# Altium schematic symbol library mySchLib.SchLib: 55 symbols
Pins are listed as number, name and electrical type; pins without a type are passive.

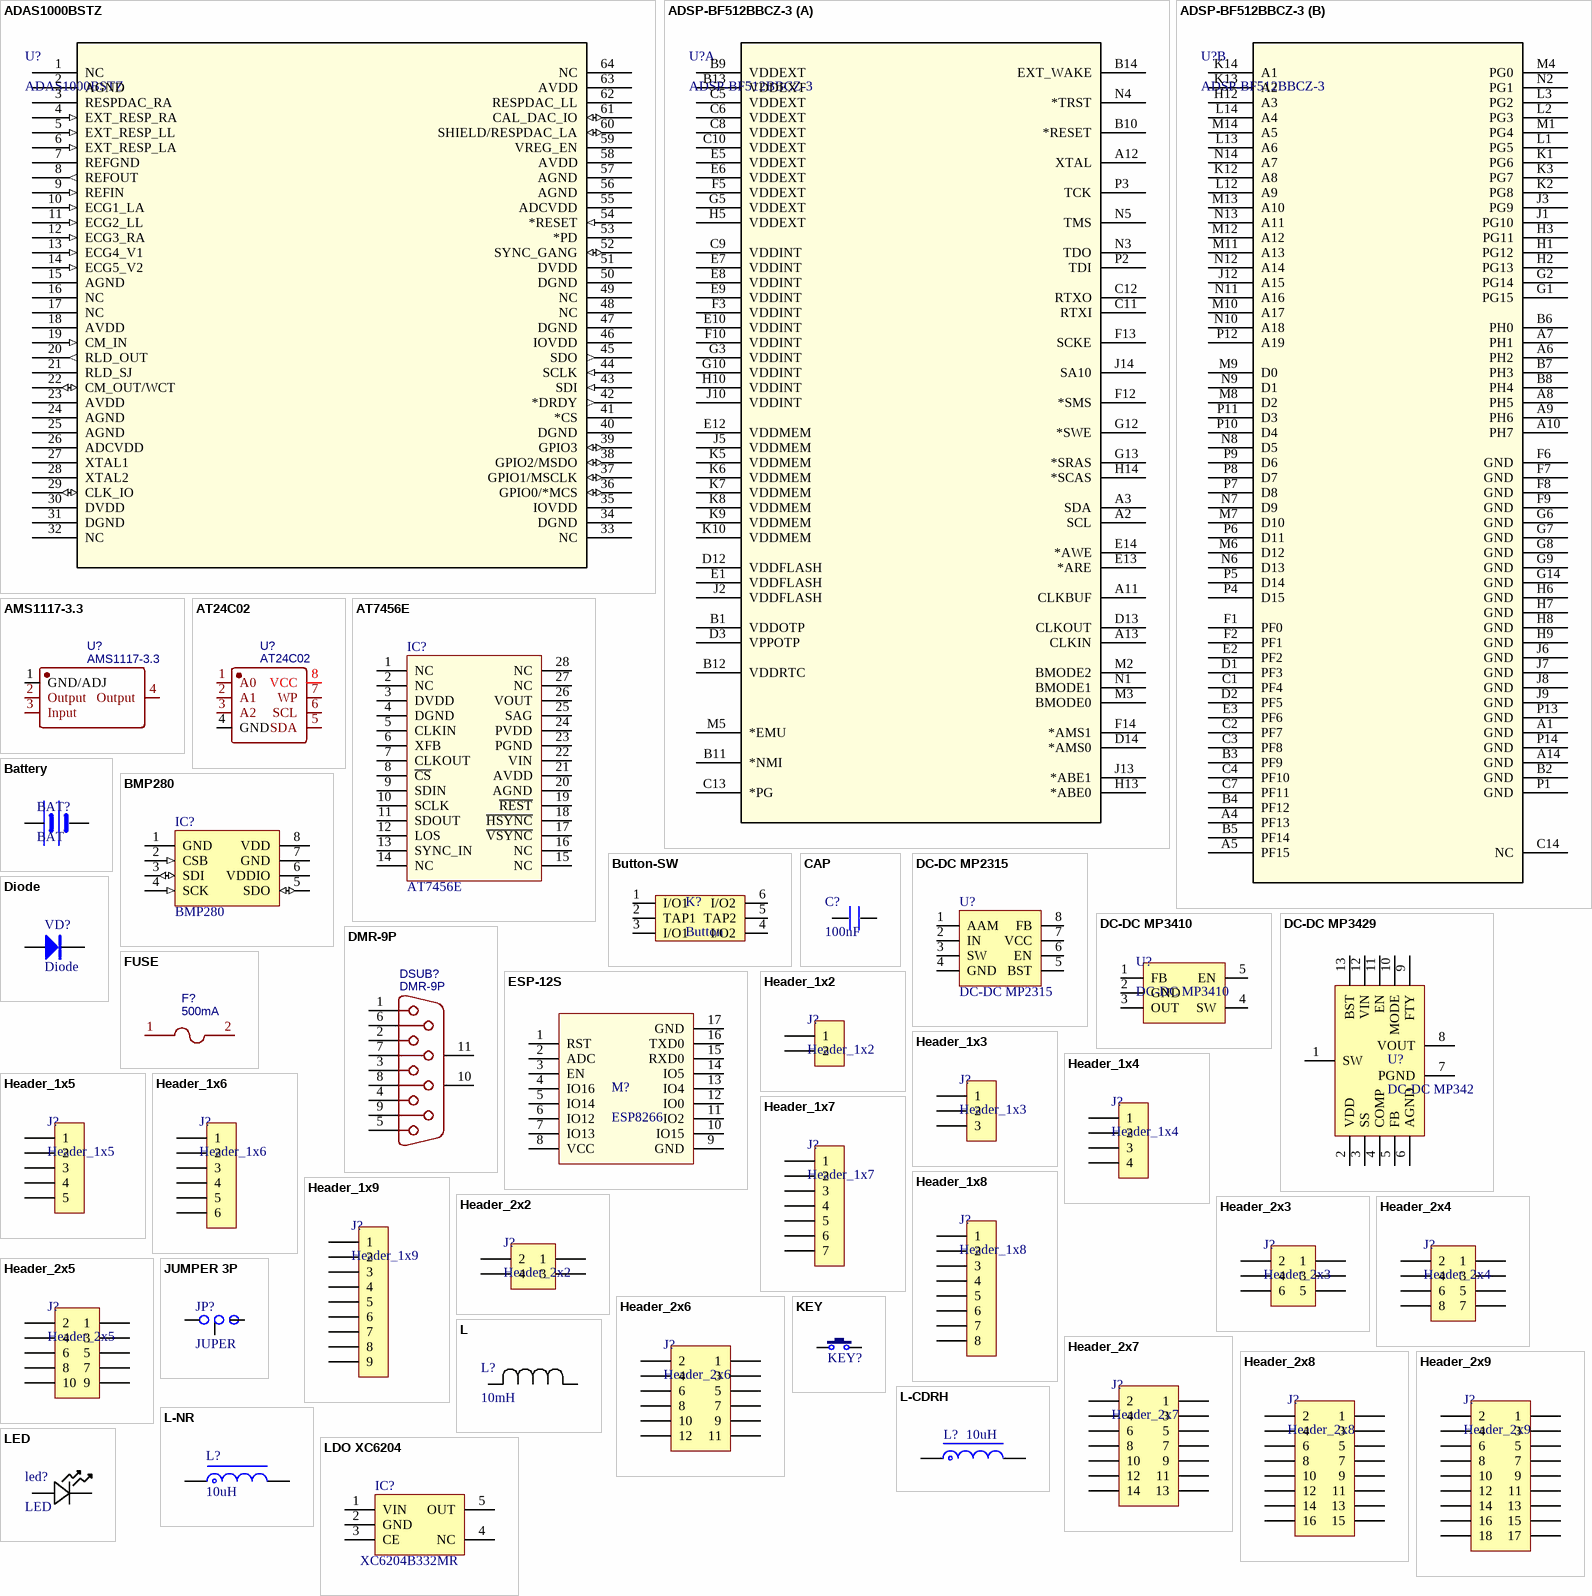
[diagram p0: symbols ADAS1000BSTZ to LED]

## ADAS1000BSTZ
designator U?
Vendor: Analog Devices Inc; Built_By: EMA_UL_Team; SourceLibrary: Analog_2015-01-06; Manufacturer_Part_Number: ADAS1000BSTZ; Copyright: Copyright (C) 2018 Accelerated Designs. All rights reserved; RefDes: RefDes; Type: DEV
footprint ADAS1000 (ECG芯片)
pins: 1 NC, 2 AGND (power), 3 RESPDAC_RA, 4 EXT_RESP_RA (in), 5 EXT_RESP_LL (in), 6 EXT_RESP_LA (in), 7 REFGND (power), 8 REFOUT (out), 9 REFIN (in), 10 ECG1_LA (in), 11 ECG2_LL (in), 12 ECG3_RA (in), 13 ECG4_V1 (in), 14 ECG5_V2 (in), 15 AGND (power), 16 NC, 17 NC, 18 AVDD (power), 19 CM_IN (in), 20 RLD_OUT (out), 21 RLD_SJ, 22 CM_OUT/WCT (io), 23 AVDD (power), 24 AGND (power), 25 AGND (power), 26 ADCVDD (power), 27 XTAL1, 28 XTAL2, 29 CLK_IO (io), 30 DVDD (power), 31 DGND (power), 32 NC, 33 NC, 34 DGND (power), 35 IOVDD (power), 36 GPIO0/*MCS (io), 37 GPIO1/MSCLK (io), 38 GPIO2/MSDO (io), 39 GPIO3 (io), 40 DGND (power), 41 *CS, 42 *DRDY (out), 43 SDI (in), 44 SCLK (in), 45 SDO (out), 46 IOVDD (power), 47 DGND (power), 48 NC, 49 NC, 50 DGND (power), 51 DVDD (power), 52 SYNC_GANG (io), 53 *PD, 54 *RESET (in), 55 ADCVDD (power), 56 AGND (power), 57 AGND (power), 58 AVDD (power), 59 VREG_EN, 60 SHIELD/RESPDAC_LA (io), 61 CAL_DAC_IO (io), 62 RESPDAC_LL, 63 AVDD (power), 64 NC

## ADSP-BF512BBCZ-3
designator U?
Vendor: Analog Devices Inc; Built_By: EMA_UL_Team; SourceLibrary: Analog_2015-12-15; Manufacturer_Part_Number: ADSP-BF512BBCZ-3; Copyright: Copyright (C) 2018 Accelerated Designs. All rights reserved; RefDes: RefDes; Type: DEV
footprint ADSP-BF512BBCZ-3
part A pins: A2 SCL, A3 SDA, A11 CLKBUF, A12 XTAL, A13 CLKIN, B1 VDDOTP, B9 VDDEXT, B10 *RESET, B11 *NMI, B12 VDDRTC, B13 VDDEXT, B14 EXT_WAKE, C5 VDDEXT, C6 VDDEXT, C8 VDDEXT, C9 VDDINT, C10 VDDEXT, C11 RTXI, C12 RTXO, C13 *PG, D3 VPPOTP, D12 VDDFLASH, D13 CLKOUT, D14 *AMS0, E1 VDDFLASH, E5 VDDEXT, E6 VDDEXT, E7 VDDINT, E8 VDDINT, E9 VDDINT, E10 VDDINT, E12 VDDMEM, E13 *ARE, E14 *AWE, F3 VDDINT, F5 VDDEXT, F10 VDDINT, F12 *SMS, F13 SCKE, F14 *AMS1, G3 VDDINT, G5 VDDEXT, G10 VDDINT, G12 *SWE, G13 *SRAS, H5 VDDEXT, H10 VDDINT, H13 *ABE0, H14 *SCAS, J2 VDDFLASH, J5 VDDMEM, J10 VDDINT, J13 *ABE1, J14 SA10, K5 VDDMEM, K6 VDDMEM, K7 VDDMEM, K8 VDDMEM, K9 VDDMEM, K10 VDDMEM, M2 BMODE2, M3 BMODE0, M5 *EMU, N1 BMODE1, N3 TDO, N4 *TRST, N5 TMS, P2 TDI, P3 TCK
part B pins: A1 GND, A4 PF13, A5 PF15, A6 PH2, A7 PH1, A8 PH5, A9 PH6, A10 PH7, A14 GND, B2 GND, B3 PF9, B4 PF12, B5 PF14, B6 PH0, B7 PH3, B8 PH4, C1 PF4, C2 PF7, C3 PF8, C4 PF10, C7 PF11, C14 NC, D1 PF3, D2 PF5, E2 PF2, E3 PF6, F1 PF0, F2 PF1, F6 GND, F7 GND, F8 GND, F9 GND, G1 PG15, G2 PG14, G6 GND, G7 GND, G8 GND, G9 GND, G14 GND, H1 PG12, H2 PG13, H3 PG11, H6 GND, H7 GND, H8 GND, H9 GND, H12 A3, J1 PG10, J3 PG9, J6 GND, J7 GND, J8 GND, J9 GND, J12 A15, K1 PG6, K2 PG8, K3 PG7, K12 A8, K13 A2, K14 A1, L1 PG5, L2 PG3, L3 PG2, L12 A9, L13 A6, L14 A4, M1 PG4, M4 PG0, M6 D12, M7 D10, M8 D2, M9 D0, M10 A17, M11 A13, M12 A12, M13 A10, M14 A5, N2 PG1, N6 D13, N7 D9, N8 D5, N9 D1, N10 A18, N11 A16, N12 A14, N13 A11, N14 A7, P1 GND, P4 D15, P5 D14, P6 D11, P7 D8, P8 D7, P9 D6, P10 D4, P11 D3, P12 A19, P13 GND, P14 GND

## AMS1117-3.3
designator U?
BOM_Manufacturer: KEXIN; Contributor: LCSC; SMT Type: Extend; BOM_Supplier: LCSC; BOM_Supplier Part: C369933; BOM_Manufacturer Part: AMS1117-3.3; BOM_LCSC Assembly: Yes; spicePre: U; spiceSymbolName: AMS1117-3.3_C369933
footprint SOT-223
pins: 1 GND/ADJ, 2 Output, 3 Input, 4 Output

## AT24C02
designator U?
EEPROM; BOM_Manufacturer: IDCHIP; Contributor: LCSC; BOM_Supplier: LCSC; BOM_Supplier Part: C688857; BOM_Manufacturer Part: AT24C02; BOM_JLCPCB Part Class: Extended Part; spicePre: U; spiceSymbolName: AT24C02
footprint SOP-8
pins: 1 A0, 2 A1, 3 A2, 4 GND, 5 SDA, 6 SCL, 7 WP, 8 VCC

## AT7456E
designator IC?
OSD芯片
footprint TSSOP28 (9.8*6.4*1mm(长宽高))
pins: 1 NC, 2 NC, 3 DVDD, 4 DGND, 5 CLKIN, 6 XFB, 7 CLKOUT, 8 ~{CS}, 9 SDIN, 10 SCLK, 11 SDOUT, 12 LOS, 13 SYNC_IN, 14 NC, 15 NC, 16 NC, 17 ~{VSYNC}, 18 ~{HSYNC}, 19 ~{REST}, 20 AGND, 21 AVDD, 22 VIN, 23 PGND, 24 PVDD, 25 SAG, 26 VOUT, 27 NC, 28 NC

## Battery
designator BAT?, comment BAT
电池
footprint CR1220 (电池座)
pins: 1 VCC, 2 GND

## BMP280
designator IC?
气压传感器
footprint BMP280 LGA8 (气压传感器)
pins: 1 GND, 2 CSB (in), 3 SDI (io), 4 SCK (in), 5 SDO (io), 6 VDDIO (power), 7 GND (power), 8 VDD (power)

## Button-SW
designator K?, comment Button
按钮自锁开关
footprint Button-8.5*8.5 (自锁开关8.5*8.5)
pins: 1 I/O1, 2 TAP1, 3 I/O1, 4 I/O2, 5 TAP2, 6 I/O2

## CAP
designator C?, comment 100nF
无极性贴片电容; Manufacturer_Part_Number: 04023A0R3BAT2A; Vendor: AVX Corporation; Built_By: EMA_UL_Team; Type: DEV; C: Copyright (C) 2016 Accelerated Designs. All rights reserved; Copyright: Copyright (C) 2016 Accelerated Designs. All rights reserved; RefDes: RefDes; Value: Value
footprint 0402_CAP (无极性贴片电容0402封装)
footprint 0603_CAP (无极性贴片电容0603封装)
footprint 0805_CAP (无极性贴片电容0805封装)
footprint 1206_CAP (无极性贴片电容1206封装)
pins: 1, 2

## DC-DC MP2315
designator U?
DC降压芯片
footprint SOT23-8 (3*1.6*1.1mm(长宽高))
pins: 1 AAM, 2 IN, 3 SW, 4 GND, 5 BST, 6 EN, 7 VCC, 8 FB

## DC-DC MP3410
designator U?
DC升压芯片；Vin=1.8~6V； Vout=2.56~6V
footprint SOT23-5 (3*1.6*1.1mm(长宽高))
pins: 1 FB, 2 GND, 3 OUT, 4 SW, 5 EN

## DC-DC MP3429
designator U?, comment DC-DC MP342
DC升压芯片；
footprint QFN-13 (3mm*4mm)
pins: 1 SW, 2 VDD, 3 SS, 4 COMP, 5 FB, 6 AGND, 7 PGND, 8 VOUT, 9 FTY, 10 MODE, 11 EN, 12 VIN, 13 BST

## Diode
designator VD?
二极管; BOM名称: 肖特基二极管; 版权归属: 源创客; 属性: 40V/1A; 学习资源: www.ooocke.com
footprint SOD-123 (2.7*1.6*1.1mm（长宽高，不包括引脚）)
pins: 1 A, 2 K

## DMR-9P
designator DSUB?
D-Sub 9P; BOM_Manufacturer: Ckmtw; Contributor: LCSC; BOM_Supplier: LCSC; BOM_Manufacturer Part: DMR-9P; BOM_Supplier Part: C141880; BOM_JLCPCB Part Class: Extended Part; spicePre: D; spiceSymbolName: DMR-9P
footprint DMR-9P (D-Sub 9P 公座)
pins: 1, 2, 3, 4, 5, 6, 7, 8, 9, 10 MH1, 11 MH2

## ESP-12S
designator M?, comment ESP8266
ESP-12S Module
footprint ESP-12S (ESP8266)
pins: 1 RST, 2 ADC, 3 EN, 4 IO16, 5 IO14, 6 IO12, 7 IO13, 8 VCC, 9 GND, 10 IO15, 11 IO2, 12 IO0, 13 IO4, 14 IO5, 15 RXD0, 16 TXD0, 17 GND

## FUSE
designator F?, comment 500mA
自恢复保险丝; BOM_Manufacturer: JDTFUSE; BOM_Manufacturer Part: ASMD0805-050; Contributor: LCSC; BOM_Supplier: LCSC; BOM_Supplier Part: C135329; BOM_JLCPCB Part Class: Extended Part; spicePre: F; spiceSymbolName: ASMD0805-050
footprint 0805_F (贴片保险丝0805封装)
footprint 1210_F (贴片保险丝1210封装)
footprint 1206_F (贴片保险丝1206封装)
footprint 1812_F (贴片保险丝1812封装)
footprint 0603_F (贴片保险丝0603封装)
footprint 0402_F (贴片保险丝0402封装)
pins: 1, 2

## Header_1x2
designator J?
2P接插件; Manufacturer_Part_Number: 826629-2; Vendor: TE Connectivity; Built_By: EMA_UL_Team; C: Copyright (C) 2015 Accelerated Designs. All rights reserved; RefDes: RefDes; Type: DEV; Value: Value
footprint Header_1x2 (2P排针，插件，脚距2.54mm)
footprint SH1.0 S-W-2P (贴片JST，脚距1.0mm，卧式)
footprint XH2.54-2P (直针)
pins: 1, 2

## Header_1x3
designator J?
3P接插件; Manufacturer_Part_Number: 826629-3; Vendor: TE Connectivity; Built_By: EMA_UL_Team; C: Copyright (C) 2015 Accelerated Designs. All rights reserved; RefDes: RefDes; Type: DEV; Value: Value
footprint Header_1x3 (3P排针，插件，脚距2.54mm)
footprint MX 1.25-WS-3P (8.9*4.2*3.4mm(长宽高))
footprint XH2.54-3P (直针)
pins: 1, 2, 3

## Header_1x4
designator J?
4P接插件; Manufacturer_Part_Number: 826629-4; Vendor: TE Connectivity; Built_By: EMA_UL_Team; C: Copyright (C) 2015 Accelerated Designs. All rights reserved; RefDes: RefDes; Type: DEV; Value: Value
footprint Header_1x4 (4P排针，插件，脚距2.54mm)
footprint SH1.0 S-W-4P (贴片JST，脚距1.0mm，卧式)
footprint XH2.54-4P (直针)
pins: 1, 2, 3, 4

## Header_1x5
designator J?
5P接插件; Manufacturer_Part_Number: 826629-5; Vendor: TE Connectivity; Built_By: EMA_UL_Team; C: Copyright (C) 2015 Accelerated Designs. All rights reserved; RefDes: RefDes; Type: DEV; Value: Value
footprint Header_1x5 (5P排针，脚距2.54mm)
pins: 1, 2, 3, 4, 5

## Header_1x6
designator J?
6P接插件; Manufacturer_Part_Number: 826629-6; Vendor: TE Connectivity; Built_By: EMA_UL_Team; C: Copyright (C) 2015 Accelerated Designs. All rights reserved; RefDes: RefDes; Type: DEV; Value: Value
footprint Header_1x6 (6P排针，插件，脚距2.54mm)
footprint SH1.0 S-W-6P (贴片JST，脚距1.0mm，卧式)
footprint XH2.54-6P(弯针)
footprint XH2.54-6P (直针)
pins: 1, 2, 3, 4, 5, 6

## Header_1x7
designator J?
7P接插件; Manufacturer_Part_Number: 826629-7; Vendor: TE Connectivity; Built_By: EMA_UL_Team; C: Copyright (C) 2015 Accelerated Designs. All rights reserved; RefDes: RefDes; Type: DEV; Value: Value
footprint Header_1x7 (7P排针，脚距2.54mm)
pins: 1, 2, 3, 4, 5, 6, 7

## Header_1x8
designator J?
8P接插件; Manufacturer_Part_Number: 826629-8; Vendor: TE Connectivity; Built_By: EMA_UL_Team; C: Copyright (C) 2015 Accelerated Designs. All rights reserved; RefDes: RefDes; Type: DEV; Value: Value
footprint Header_1x8 (8P排针，脚距2.54mm)
footprint SH1.0 S-W-8P (贴片JST，脚距1.0mm，卧式)
pins: 1, 2, 3, 4, 5, 6, 7, 8

## Header_1x9
designator J?
9P接插件; Manufacturer_Part_Number: 826629-9; Vendor: TE Connectivity; Built_By: EMA_UL_Team; C: Copyright (C) 2015 Accelerated Designs. All rights reserved; RefDes: RefDes; Type: DEV; Value: Value
footprint Header_1x9 (9P排针，脚距2.54mm)
pins: 1, 2, 3, 4, 5, 6, 7, 8, 9

## Header_2x2
designator J?
2x2P-接插件; Manufacturer_Part_Number: 826656-2; Vendor: TE Connectivity; Built_By: EMA_UL_Team; C: Copyright (C) 2015 Accelerated Designs. All rights reserved; RefDes: RefDes; Type: DEV; Value: Value
footprint Header_2x2 (2x2P双排排针，插件，脚距2.54mm)
pins: 1, 2, 3, 4

## Header_2x3
designator J?
2x3P-接插件; Manufacturer_Part_Number: 826656-3; Vendor: TE Connectivity; Built_By: EMA_UL_Team; C: Copyright (C) 2015 Accelerated Designs. All rights reserved; RefDes: RefDes; Type: DEV; Value: Value
footprint Header_2x3 (2x3P双排排针，插件，脚距2.54mm)
pins: 1, 2, 3, 4, 5, 6

## Header_2x4
designator J?
2x4P-接插件; Manufacturer_Part_Number: 826656-4; Vendor: TE Connectivity; Built_By: EMA_UL_Team; C: Copyright (C) 2015 Accelerated Designs. All rights reserved; RefDes: RefDes; Type: DEV; Value: Value
footprint Header_2x4 (2x4P双排排针，插件，脚距2.54mm)
pins: 1, 2, 3, 4, 5, 6, 7, 8

## Header_2x5
designator J?
2x5P-接插件; Manufacturer_Part_Number: 826656-5; Vendor: TE Connectivity; Built_By: EMA_UL_Team; C: Copyright (C) 2015 Accelerated Designs. All rights reserved; RefDes: RefDes; Type: DEV; Value: Value
footprint Header_2x5 (2x5P双排排针，插件，脚距2.54mm)
footprint HDR1.27 2x5-SMD (2x5P双排排针，贴片，脚距1.27mm)
footprint HDR1.27 2x5-M-SMD (2x5P双排排母，贴片，脚距1.27mm)
pins: 1, 2, 3, 4, 5, 6, 7, 8, 9, 10

## Header_2x6
designator J?
2x6P-接插件; Manufacturer_Part_Number: 826656-6; Vendor: TE Connectivity; Built_By: EMA_UL_Team; C: Copyright (C) 2015 Accelerated Designs. All rights reserved; RefDes: RefDes; Type: DEV; Value: Value
footprint Header_2x6 (2x6P双排排针，插件，脚距2.54mm)
pins: 1, 2, 3, 4, 5, 6, 7, 8, 9, 10, 11, 12

## Header_2x7
designator J?
2x7P-接插件
footprint Header_2x7 (2x7P双排排针，插件，脚距2.54mm)
pins: 1, 2, 3, 4, 5, 6, 7, 8, 9, 10, 11, 12, 13, 14

## Header_2x8
designator J?
2x8P-接插件; Manufacturer_Part_Number: 826656-8; Vendor: TE Connectivity; Built_By: EMA_UL_Team; C: Copyright (C) 2015 Accelerated Designs. All rights reserved; RefDes: RefDes; Type: DEV; Value: Value
footprint Header_2x8 (2x8P双排排针，插件，脚距2.54mm)
pins: 1, 2, 3, 4, 5, 6, 7, 8, 9, 10, 11, 12, 13, 14, 15, 16

## Header_2x9
designator J?
2x9P-接插件; Manufacturer_Part_Number: 826656-9; Vendor: TE Connectivity; Built_By: EMA_UL_Team; C: Copyright (C) 2015 Accelerated Designs. All rights reserved; RefDes: RefDes; Type: DEV; Value: Value
footprint Header_2x9 (2x9P双排排针，插件，脚距2.54mm)
pins: 1, 2, 3, 4, 5, 6, 7, 8, 9, 10, 11, 12, 13, 14, 15, 16, 17, 18

## JUMPER 3P
designator JP?, comment JUPER
三点焊盘跳线
footprint JUMPER 3P (3点跳线)
pins: 1, 2, 3

## KEY
designator KEY?  (value not drawn)
按键; BOM名称: 3x6轻触开关; 版权归属: 源创客; 学习资源: www.ooocke.com
footprint KEY-TSW-2-3*6 (立式两脚贴片按键 3*6)
footprint KEY_TSW-2-2*4*3.5 (侧立贴片按键2*4*3.5)
footprint KEY-CSW-4-6*6 (四脚插件按键6*6)
pins: 1, 2

## L
designator L?, comment 10mH
贴片电感; Manufacturer_Part_Number: MLF1005A1R0KT; Vendor: TDK; Built_By: EMA_UL_Team; Type: DEV; C: Copyright (C) 2015 Accelerated Designs. All rights reserved; RefDes: RefDes; Value: Value
footprint 0402_L (贴片电感0402封装)
footprint 0603_L (贴片电感0603封装)
footprint 0805_L (贴片电感0805封装)
pins: 1, 2

## L-CDRH
designator L?, comment 10uH
功率屏蔽电感; 版权归属: 源创客; BOM名称: 功率屏蔽电感; 学习资源: www.ooocke.com
footprint SMD-0420_L (4*4.5*2mm(长宽高))
pins: 1, 2

## L-NR
designator L?, comment 10uH
NR功率电感; 版权归属: 源创客; BOM名称: NR功率电感; 学习资源: www.ooocke.com
footprint NR3015 (3*3*1.5mm(长宽高))
pins: 1, 2

## LDO XC6204
designator IC?, comment XC6204B332MR
LDO; BOM名称: 稳压芯片; 版权归属: 源创客; 学习资源: www.ooocke.com
footprint SOT23-5 (3*1.6*1.1mm(长宽高))
pins: 1 VIN, 2 GND, 3 CE, 4 NC, 5 OUT

## LED
designator led?
贴片发光二极管; Manufacturer_Part_Number: VLMB1310-GS08; Vendor: Vishay; Built_By: EMA_UL_Team; Type: DEV; C: Copyright (C) 2015 Accelerated Designs. All rights reserved; RefDes: RefDes; Value: Value
footprint 0603_LED (发光二极管0603封装)
footprint 0805_LED (发光二极管0805封装)
pins: 1, 2

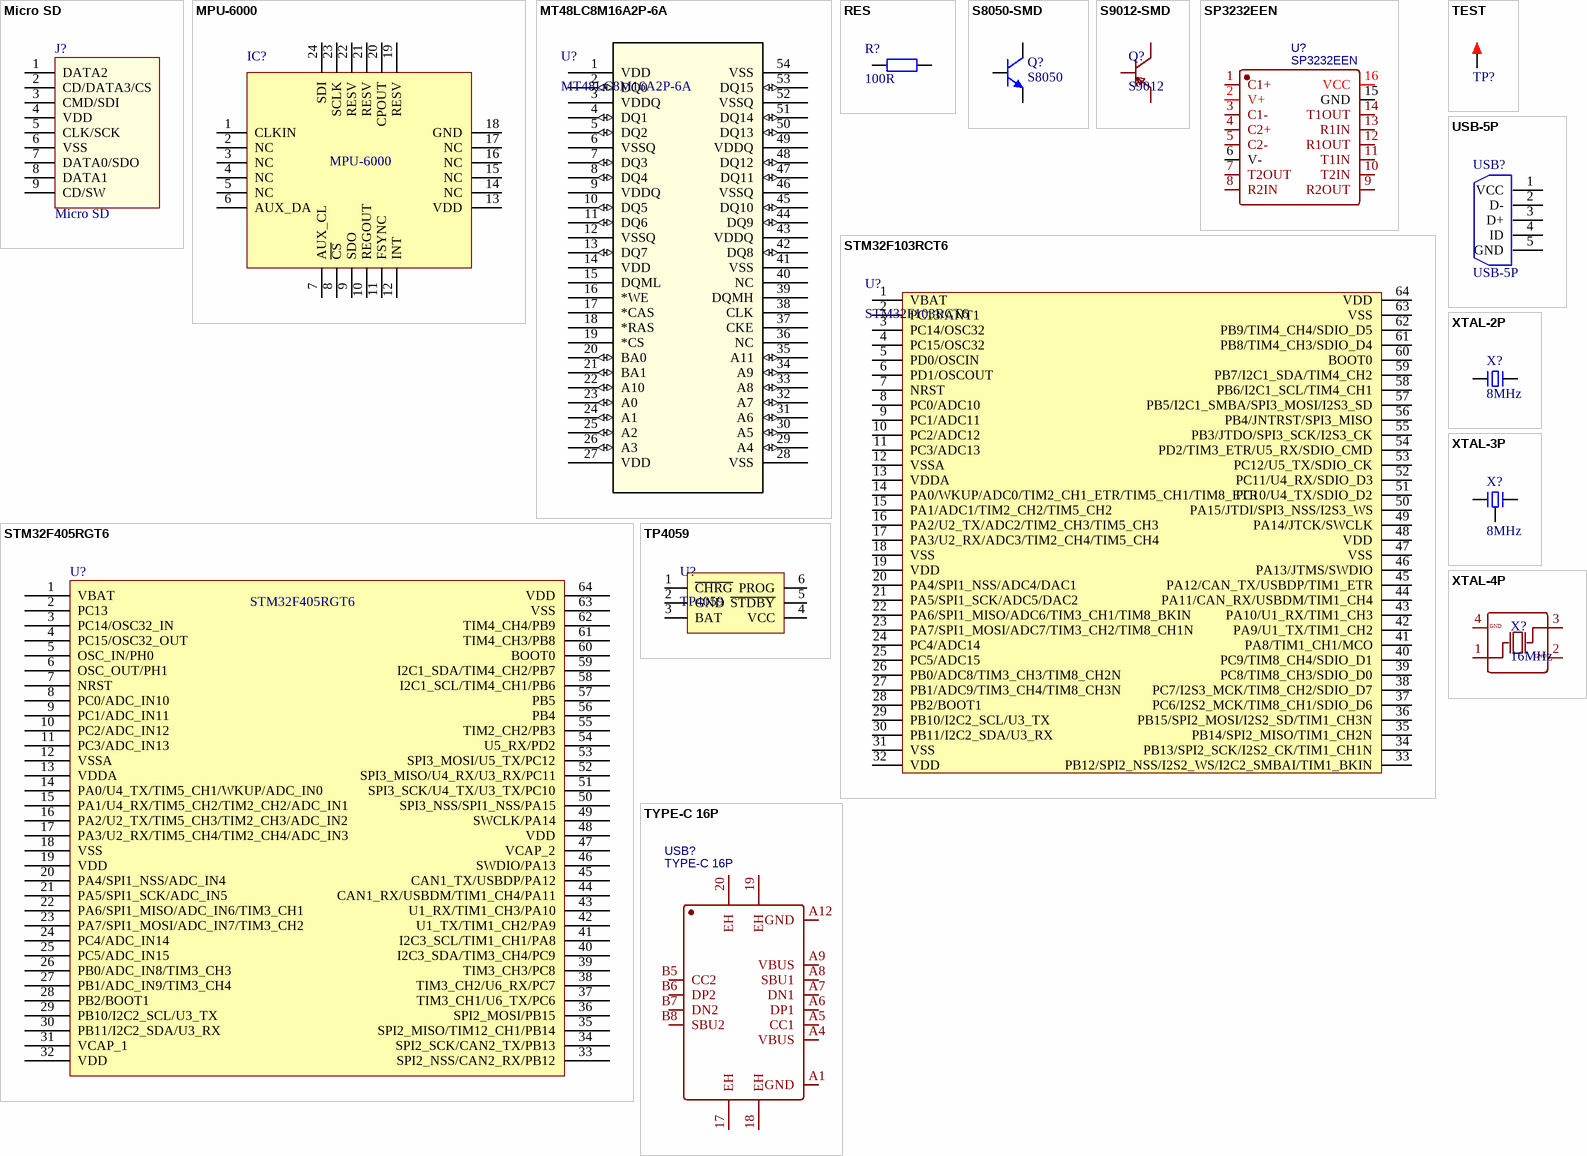
[diagram p1: symbols Micro SD to XTAL-4P]

## Micro SD
designator J?
Micro SD卡; 版权归属: 源创客; BOM名称: Micro SD卡; 学习资源: www.ooocke.com
footprint MICRO SD (SD卡)
pins: 1 DATA2, 2 CD/DATA3/CS, 3 CMD/SDI, 4 VDD, 5 CLK/SCK, 6 VSS, 7 DATA0/SDO, 8 DATA1, 9 CD/SW

## MPU-6000
designator IC?
传感器; ComponentLink1Description: 供应商链接; ComponentLink1URL: http://www.szlcsc.com/product/details_24852.html; Package: QFN-24_4x4x05P; Supplier: LC; SuppliersPartNumber: C24112
footprint QFN24 4X4_N
pins: 1 CLKIN, 2 NC, 3 NC, 4 NC, 5 NC, 6 AUX_DA, 7 AUX_CL, 8 ~{CS}, 9 SDO, 10 REGOUT, 11 FSYNC, 12 INT, 13 VDD, 14 NC, 15 NC, 16 NC, 17 NC, 18 GND, 19 RESV, 20 CPOUT, 21 RESV, 22 RESV, 23 SCLK, 24 SDI

## MT48LC8M16A2P-6A
designator U?
SDRAM; Manufacturer_Part_Number: MT48LC8M16A2P-6A:L; Vendor: Micron; Built_By: EMA_Jessica; SourceLibrary: Micron_2018-04-06; Copyright: Copyright (C) 2016 Accelerated Designs. All rights reserved; RefDes: RefDes; Type: DEV
footprint TSOP54
pins: 1 VDD (power), 2 DQ0 (io), 3 VDDQ (power), 4 DQ1 (io), 5 DQ2 (io), 6 VSSQ, 7 DQ3 (io), 8 DQ4 (io), 9 VDDQ (power), 10 DQ5 (io), 11 DQ6 (io), 12 VSSQ, 13 DQ7 (io), 14 VDD (power), 15 DQML, 16 *WE, 17 *CAS, 18 *RAS, 19 *CS, 20 BA0 (io), 21 BA1 (io), 22 A10 (io), 23 A0 (io), 24 A1 (io), 25 A2 (io), 26 A3 (io), 27 VDD (power), 28 VSS, 29 A4 (io), 30 A5 (io), 31 A6 (io), 32 A7 (io), 33 A8 (io), 34 A9 (io), 35 A11 (io), 36 NC, 37 CKE, 38 CLK, 39 DQMH, 40 NC, 41 VSS, 42 DQ8 (io), 43 VDDQ (power), 44 DQ9 (io), 45 DQ10 (io), 46 VSSQ, 47 DQ11 (io), 48 DQ12 (io), 49 VDDQ (power), 50 DQ13 (io), 51 DQ14 (io), 52 VSSQ, 53 DQ15 (io), 54 VSS

## RES
designator R?, comment 100R
贴片电阻; Manufacturer_Part_Number: RC0402FR-070RL; Vendor: Yageo; Built_By: EMA_UL_Team; C: Copyright (C) 2015 Accelerated Designs. All rights reserved; RefDes: RefDes; Type: DEV; Value: Value
footprint 0402_RES (贴片电阻，0402封装)
footprint 0603_RES (贴片电阻，0603封装)
footprint 0805_RES (贴片电阻，0805封装)
footprint 1206_RES (贴片电阻，1206封装)
pins: 1, 2

## S8050-SMD
designator Q?, comment S8050
高频放大-NPN型; 版权归属: 源创客; 属性: 40V 1.5A 1W 100MHZ; BOM名称: 高频放大-NPN型; 学习资源: www.ooocke.com
footprint SOT-23-3L (http://www.aosmd.com/res/packaging_information/SOT-23-3L.pdf)
footprint SOT-23(SOT-23-3) (3*1.3*1mm(长宽高))
pins: 1 B, 2 E, 3 C

## S9012-SMD
designator Q?, comment S9012
PNP
footprint SOT-23(SOT-23-3) (3*1.3*1mm(长宽高))
pins: 1, 2, 3

## SP3232EEN
designator U?
RS232转换芯片; BOM_Manufacturer: UMW(友台半导体); Contributor: LCSC; BOM_Supplier: LCSC; BOM_Supplier Part: C2904739; BOM_Manufacturer Part: SP3232EEN; BOM_JLCPCB Part Class: Extended Part; spicePre: U; spiceSymbolName: SP3232EEN
footprint SOP-16
pins: 1 C1+, 2 V+, 3 C1-, 4 C2+, 5 C2-, 6 V-, 7 T2OUT, 8 R2IN, 9 R2OUT, 10 T2IN, 11 T1IN, 12 R1OUT, 13 R1IN, 14 T1OUT, 15 GND, 16 VCC

## STM32F103RCT6
designator U?
Flaah:256/RAM:48/IO:51
footprint LQFP-64 (64脚，体宽10x10mm，脚距0.5mm)
pins: 1 VBAT, 2 PC13/ANT1, 3 PC14/OSC32, 4 PC15/OSC32, 5 PD0/OSCIN, 6 PD1/OSCOUT, 7 NRST, 8 PC0/ADC10, 9 PC1/ADC11, 10 PC2/ADC12, 11 PC3/ADC13, 12 VSSA, 13 VDDA, 14 PA0/WKUP/ADC0/TIM2_CH1_ETR/TIM5_CH1/TIM8_ETR, 15 PA1/ADC1/TIM2_CH2/TIM5_CH2, 16 PA2/U2_TX/ADC2/TIM2_CH3/TIM5_CH3, 17 PA3/U2_RX/ADC3/TIM2_CH4/TIM5_CH4, 18 VSS, 19 VDD, 20 PA4/SPI1_NSS/ADC4/DAC1, 21 PA5/SPI1_SCK/ADC5/DAC2, 22 PA6/SPI1_MISO/ADC6/TIM3_CH1/TIM8_BKIN, 23 PA7/SPI1_MOSI/ADC7/TIM3_CH2/TIM8_CH1N, 24 PC4/ADC14, 25 PC5/ADC15, 26 PB0/ADC8/TIM3_CH3/TIM8_CH2N, 27 PB1/ADC9/TIM3_CH4/TIM8_CH3N, 28 PB2/BOOT1, 29 PB10/I2C2_SCL/U3_TX, 30 PB11/I2C2_SDA/U3_RX, 31 VSS, 32 VDD, 33 PB12/SPI2_NSS/I2S2_WS/I2C2_SMBAI/TIM1_BKIN, 34 PB13/SPI2_SCK/I2S2_CK/TIM1_CH1N, 35 PB14/SPI2_MISO/TIM1_CH2N, 36 PB15/SPI2_MOSI/I2S2_SD/TIM1_CH3N, 37 PC6/I2S2_MCK/TIM8_CH1/SDIO_D6, 38 PC7/I2S3_MCK/TIM8_CH2/SDIO_D7, 39 PC8/TIM8_CH3/SDIO_D0, 40 PC9/TIM8_CH4/SDIO_D1, 41 PA8/TIM1_CH1/MCO, 42 PA9/U1_TX/TIM1_CH2, 43 PA10/U1_RX/TIM1_CH3, 44 PA11/CAN_RX/USBDM/TIM1_CH4, 45 PA12/CAN_TX/USBDP/TIM1_ETR, 46 PA13/JTMS/SWDIO, 47 VSS, 48 VDD, 49 PA14/JTCK/SWCLK, 50 PA15/JTDI/SPI3_NSS/I2S3_WS, 51 PC10/U4_TX/SDIO_D2, 52 PC11/U4_RX/SDIO_D3, 53 PC12/U5_TX/SDIO_CK, 54 PD2/TIM3_ETR/U5_RX/SDIO_CMD, 55 PB3/JTDO/SPI3_SCK/I2S3_CK, 56 PB4/JNTRST/SPI3_MISO, 57 PB5/I2C1_SMBA/SPI3_MOSI/I2S3_SD, 58 PB6/I2C1_SCL/TIM4_CH1, 59 PB7/I2C1_SDA/TIM4_CH2, 60 BOOT0, 61 PB8/TIM4_CH3/SDIO_D4, 62 PB9/TIM4_CH4/SDIO_D5, 63 VSS, 64 VDD

## STM32F405RGT6
designator U?
Flaah:256/RAM:48/IO:51
footprint LQFP-64 (64脚，体宽10x10mm，脚距0.5mm)
footprint LQFP-64-L (64脚，体宽10x10mm，脚距0.5mm)
footprint LQFP-64-M (64脚，体宽10x10mm，脚距0.5mm)
pins: 1 VBAT, 2 PC13, 3 PC14/OSC32_IN, 4 PC15/OSC32_OUT, 5 OSC_IN/PH0, 6 OSC_OUT/PH1, 7 NRST, 8 PC0/ADC_IN10, 9 PC1/ADC_IN11, 10 PC2/ADC_IN12, 11 PC3/ADC_IN13, 12 VSSA, 13 VDDA, 14 PA0/U4_TX/TIM5_CH1/WKUP/ADC_IN0, 15 PA1/U4_RX/TIM5_CH2/TIM2_CH2/ADC_IN1, 16 PA2/U2_TX/TIM5_CH3/TIM2_CH3/ADC_IN2, 17 PA3/U2_RX/TIM5_CH4/TIM2_CH4/ADC_IN3, 18 VSS, 19 VDD, 20 PA4/SPI1_NSS/ADC_IN4, 21 PA5/SPI1_SCK/ADC_IN5, 22 PA6/SPI1_MISO/ADC_IN6/TIM3_CH1, 23 PA7/SPI1_MOSI/ADC_IN7/TIM3_CH2, 24 PC4/ADC_IN14, 25 PC5/ADC_IN15, 26 PB0/ADC_IN8/TIM3_CH3, 27 PB1/ADC_IN9/TIM3_CH4, 28 PB2/BOOT1, 29 PB10/I2C2_SCL/U3_TX, 30 PB11/I2C2_SDA/U3_RX, 31 VCAP_1, 32 VDD, 33 SPI2_NSS/CAN2_RX/PB12, 34 SPI2_SCK/CAN2_TX/PB13, 35 SPI2_MISO/TIM12_CH1/PB14, 36 SPI2_MOSI/PB15, 37 TIM3_CH1/U6_TX/PC6, 38 TIM3_CH2/U6_RX/PC7, 39 TIM3_CH3/PC8, 40 I2C3_SDA/TIM3_CH4/PC9, 41 I2C3_SCL/TIM1_CH1/PA8, 42 U1_TX/TIM1_CH2/PA9, 43 U1_RX/TIM1_CH3/PA10, 44 CAN1_RX/USBDM/TIM1_CH4/PA11, 45 CAN1_TX/USBDP/PA12, 46 SWDIO/PA13, 47 VCAP_2, 48 VDD, 49 SWCLK/PA14, 50 SPI3_NSS/SPI1_NSS/PA15, 51 SPI3_SCK/U4_TX/U3_TX/PC10, 52 SPI3_MISO/U4_RX/U3_RX/PC11, 53 SPI3_MOSI/U5_TX/PC12, 54 U5_RX/PD2, 55 TIM2_CH2/PB3, 56 PB4, 57 PB5, 58 I2C1_SCL/TIM4_CH1/PB6, 59 I2C1_SDA/TIM4_CH2/PB7, 60 BOOT0, 61 TIM4_CH3/PB8, 62 TIM4_CH4/PB9, 63 VSS, 64 VDD

## TEST
designator TP?  (value not drawn)
测试点; 版权归属: 源创客; BOM名称: 测试点; 学习资源: www.ooocke.com
footprint TEST PAD 1.8 (测试点)
pins: 1

## TP4059
designator U?
单节锂电池充电器
footprint SOT23-6 (3*1.6*1.1mm(长宽高))
pins: 1 ~{CHRG}, 2 GND, 3 BAT, 4 VCC, 5 ~{STDBY}, 6 PROG

## TYPE-C 16P
designator USB?
贴片TYPE-C接口; BOM_Manufacturer: SHOU HAN(首韩); BOM_Manufacturer Part: TYPE-C 16P QTGM027; Contributor: LCSC; BOM_Supplier: LCSC; BOM_Supplier Part: C2681552; BOM_JLCPCB Part Class: Extended Part; spicePre: U; spiceSymbolName: TYPE-C 16P QTGM027
footprint USB-C-SMD_16P (全贴片TYPE-C)
pins: 17 EH, 18 EH, 19 EH, 20 EH, A1 GND, A4 VBUS, A5 CC1, A6 DP1, A7 DN1, A8 SBU1, A9 VBUS, A12 GND, B5 CC2, B6 DP2, B7 DN2, B8 SBU2

## USB-5P
designator USB?
微型USB母座; 版权归属: 源创客; BOM名称: 微型USB母座; 学习资源: www.ooocke.com
footprint MICRO-USB_B (5P ， B 型牛角)
footprint MICRO-usb_E (Micro usb 5P，5.9*8.2*2.5mm)
pins: 1 VCC, 2 D-, 3 D+, 4 ID, 5 GND

## XTAL-2P
designator X?, comment 8MHz
2脚无源晶振; BOM名称: 4脚晶振; 版权归属: 源创客; 学习资源: www.ooocke.com
footprint XTAL-C-2P (直插两脚晶振)
footprint XTAL-32C-2P (32.768K直插无源晶振)
footprint XTAL-3215-2P (贴片两脚无源晶振)
pins: 1, 2

## XTAL-3P
designator X?, comment 8MHz
3脚无源晶振; BOM名称: 2脚晶振; 版权归属: 源创客; 学习资源: www.ooocke.com
footprint XTAL-3215-3P
pins: 1, 2, 3

## XTAL-4P
designator X?, comment 16MHz
4脚无源晶振
footprint XTAL-3225-4P (4脚无源晶振)
pins: 1 OSC1, 2 GND, 3 OSC2, 4 GND